# Altium footprint library резисторы.PcbLib: 15 footprints
Each footprint in its own frame and in the unit in brackets; x right, y up, seen from the top. Pads: shape width x height; smd on the part's side, far side on the other; paste and mask are expansions set on the pad; w line width, h text height; cw(c..) or ccw(c..) is an arc to the next point about the centre after c.
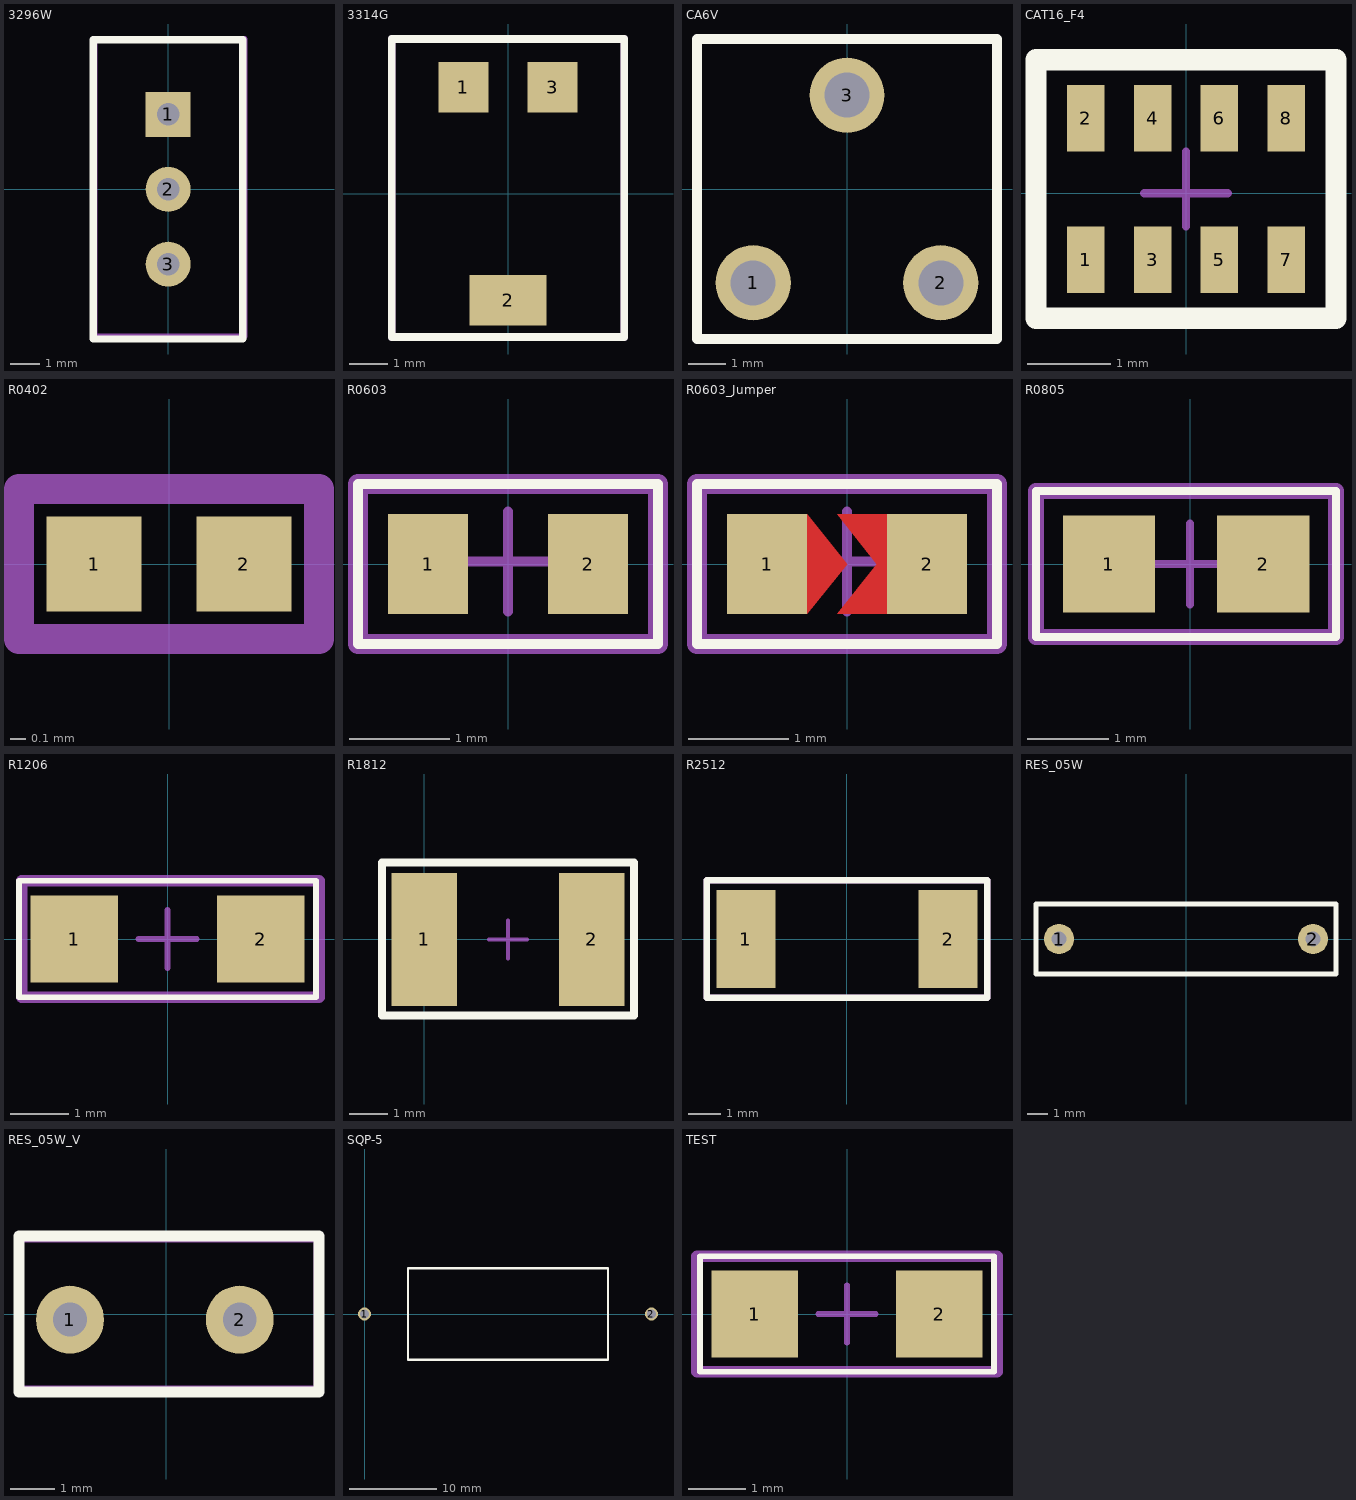
[diagram p0: the footprints below, top view; thin cyan lines are the x and y axes]

## 3296W [mil]
pads (3):
  rect 60x60 hole 30: 1(0,100)
  round 60 hole 30: 2(0,0) 3(0,-100)
Top Overlay:
  lines w10: -100,-200 -100,200 100,200 100,-200 -100,-200
ASSEMBLY_TOP:
  lines w7.87: -98.43,-196.85 102.36,-196.85 102.36,200.79 -98.43,200.79 -98.43,-196.85
  text ".Designator" at -7.87,122.05 h60
3D body "3296w.stp": height 444.85, standoff -128.15, extent -95,-188 95,188

## 3314G [mm]
pads (3):
  rect 1.3x1.3 smd: 1(-1.15,2.75) 3(1.15,2.75)
  rect 2x1.3 smd: 2(0,-2.75)
Top Overlay:
  lines w0.2: -3,-3.7 3,-3.7 3,4 -3,4 -3,-3.7
ASSEMBLY_TOP:
  lines w0.2: -3,-3.7 3,-3.7 3,4 -3,4 -3,-3.7
  text ".Designator" at -2.6,-0.9 h1.52
3D body "3314g-1-103e.stp": height 2.67, standoff -0.06, extent -2.5,-3.1 2.5,3.098

## CA6V [mm]
pads (3):
  round 2 hole 1.2: 1(-2.5,-2.5) 2(2.5,-2.5) 3(0,2.5)
Top Overlay:
  lines w0.254: -4,-4 4,-4 4,4 -4,4 -4,-4
ASSEMBLY_TOP:
  lines w0.2: -4,-4 -4,4 4,4 4,-4 -4,-4
  text ".Designator" at -3.2,-0.2 h1.52
3D body: height 5, standoff 0, extent -3.81,-3.81 3.81,3.81

## CAT16_F4 [mm]
pads (8):
  rect 0.45x0.8 smd: 1(-1.2,-0.8) 2(-1.2,0.9) 3(-0.4,-0.8) 4(-0.4,0.9) 5(0.4,-0.8) 6(0.4,0.9) 7(1.2,-0.8) 8(1.2,0.9)
Top Overlay:
  lines w0.254: -1.8,-1.5 1.8,-1.5 1.8,1.6 -1.8,1.6 -1.8,-1.5
ASSEMBLY_TOP:
  lines w0.2: -1.8,-1.5 -1.8,1.6 1.8,1.6 1.8,-1.5 -1.8,-1.5
  text ".Designator" at -1.4,-1.1 h1.52
Mechanical 15:
  lines w0.1: -0.5,0 0.5,0 ; 0,-0.4 0,0.5
3D body "CAT_16x4.STEP": height 0.5, standoff 0, extent -1.6,-0.6 1.6,1

## R0402 [mm]
pads (2):
  rect 0.635x0.635 smd: 1(-0.5,0) 2(0.5,0)
ASSEMBLY_TOP:
  lines w0.2: -1,-0.5 1,-0.5 1,0.5 -1,0.5 -1,-0.5
  text ".Designator" at -1.2,0.9 h1.52
3D body "User Library-d0402h025.step": height 0.25, standoff 0, extent -0.5,-0.25 0.5,0.25

## R0603 [mm]
pads (2):
  rect 0.8x1 smd: 1(-0.8,0) 2(0.8,0)
Top Overlay:
  lines w0.1: -1.5,-0.8 1.5,-0.8 1.5,0.8 -1.5,0.8 -1.5,-0.8
ASSEMBLY_TOP:
  lines w0.2: -1.5,-0.8 -1.5,0.8 1.5,0.8 1.5,-0.8 -1.5,-0.8
  text ".Designator" at -1.1,-0.4 h1.52
Mechanical 15:
  lines w0.1: -0.527,0.025 0.473,0.025 ; -0.002,-0.475 -0.002,0.525
3D body "R0603.STEP": height 0.56, standoff 0, extent -0.863,-0.381 0.837,0.419

## R0603_Jumper [mm]
pads (2):
  rect 0.8x1 smd: 1(-0.8,0) 2(0.8,0)
Top Layer:
  region: 1.2,0.5 -0.1,0.5 0.3,0 -0.1,-0.5 1.2,-0.5
  region: -1.2,0.5 -0.4,0.5 0,0 -0.4,-0.5 -1.2,-0.5
Top Overlay:
  lines w0.1: -1.5,-0.8 -1.5,0.8 1.5,0.8 1.5,-0.8 -1.5,-0.8
ASSEMBLY_TOP:
  lines w0.2: -1.5,-0.8 1.5,-0.8 1.5,0.8 -1.5,0.8 -1.5,-0.8
  text ".Designator" at -1.1,-0.4 h1.52
Mechanical 15:
  lines w0.1: -0.527,0.025 0.473,0.025 ; -0.002,-0.475 -0.002,0.525

## R0805 [mm]
pads (2):
  rect 1.14x1.2 smd: 1(-1,0) 2(0.905,0)
Top Overlay:
  lines w0.1: -1.9,-0.9 -1.9,0.9 1.8,0.9 1.8,-0.9 -1.9,-0.9
ASSEMBLY_TOP:
  lines w0.2: -1.9,-0.9 1.8,-0.9 1.8,0.9 -1.9,0.9 -1.9,-0.9
  text ".Designator" at -1.5,-0.5 h1.52
Mechanical 15:
  lines w0.1: -0.5,0 0.5,0 ; 0,-0.5 0,0.5
3D body "R0805.STEP": height 0.76, standoff 0, extent -1.21,-0.675 1.09,0.675

## R1206 [mm]
pads (2):
  rect 1.5x1.5 smd: 1(-1.6,0) 2(1.6,0)
Top Overlay:
  lines w0.1: -2.55,-1 -2.55,1 2.55,1 2.55,-1 -2.55,-1
ASSEMBLY_TOP:
  lines w0.2: -2.5,-1 -2.5,1 2.6,1 2.6,-1 -2.5,-1
  text ".Designator" at -2.1,-0.6 h1.52
Mechanical 15:
  lines w0.1: -0.5,0 0.5,0 ; 0,-0.5 0,0.5
3D body "R1206.STEP": height 0.85, standoff 0, extent -1.675,-0.865 1.675,0.865

## R1812 [mm]
pads (2):
  rect 1.7x3.45 smd: 1(0,0) 2(4.35,0)
Top Overlay:
  lines w0.2: -1.1,-1.975 -1.1,2 5.45,2 5.45,-1.975 -1.1,-1.975
Mechanical 15:
  lines w0.1: 1.675,0 2.675,0 ; 2.175,-0.5 2.175,0.5
3D body "R1812.STEP": height 1.6, standoff 0, extent -0.075,-1.6 4.425,1.6

## R2512 [mm]
pads (2):
  rect 1.8x3 smd: 1(-3.1,0) 2(3.1,0)
Top Overlay:
  lines w0.2: -4.3,-1.8 4.3,-1.8 4.3,1.8 -4.3,1.8 -4.3,-1.8
ASSEMBLY_TOP:
  lines w0.2: -4.3,-1.8 -4.3,1.8 4.3,1.8 4.3,-1.8 -4.3,-1.8
  text ".Designator" at -3.5,-0.9 h1.52
3D body "2512.STEP": height 0.6, standoff 0, extent -3.175,-1.55 3.175,1.55

## RES_05W [mil]
pads (2):
  round 60 hole 30: 1(-250,0) 2(250,0)
Top Overlay:
  lines w10: -295.28,-68.9 -295.28,68.9 295.28,68.9 295.28,-68.9 -295.28,-68.9
3D body "res_05x12_5.STEP": height 141.73, standoff -70.87, extent -257.87,-62.99 257.88,63

## RES_05W_V [mil]
pads (2):
  round 60 hole 30: 1(-85,-5) 2(65,-5)
Top Overlay:
  lines w10: -130,-68.9 -130,68.9 135,68.9 135,-68.9 -130,-68.9
ASSEMBLY_TOP:
  lines w7.87: -129.92,-66.93 133.86,-66.93 133.86,66.93 -129.92,66.93 -129.92,-66.93
  text ".Designator" at -114.17,-51.18 h60
3D body "RES 0,5W -V  L=9 D=3,2 d=0,6 Pin2Pin=3,81.STEP": height 498.03, standoff -118.11, extent -98.43,-66.94 126.32,59.06

## SQP-5 [mm]
pads (2):
  round 1.5 hole 1: 1(0,0) 2(33,0)
Top Overlay:
  lines w0.254: 5,-5.25 5,5.25 28,5.25 28,-5.25 5,-5.25

## TEST [mm]
pads (2):
  rect 1.5x1.5 smd: 1(-1.6,0) 2(1.6,0)
Top Overlay:
  lines w0.1: -2.55,-1 2.55,-1 2.55,1 -2.55,1 -2.55,-1
Mechanical 15:
  lines w0.1: -0.5,0 0.5,0 ; 0,-0.5 0,0.5
Top TopAssy/BotomAssy (Mech24):
  lines w0.2: -2.6,-1 2.6,-1 2.6,1 -2.6,1 -2.6,-1
  text "'.Designator'" at -2.6,-2.214 h1.52
3D body "R1206.STEP": height 0.85, standoff 0, extent -1.675,-0.865 1.675,0.865